# Altium footprint library Connector_Samtec_FSI.PcbLib: 90 footprints (part 3 of 6)
Each footprint in its own frame and in the unit in brackets; x right, y up, seen from the top. Pads: shape width x height; smd on the part's side, far side on the other; paste and mask are expansions set on the pad; w line width, h text height; cw(c..) or ccw(c..) is an arc to the next point about the centre after c.
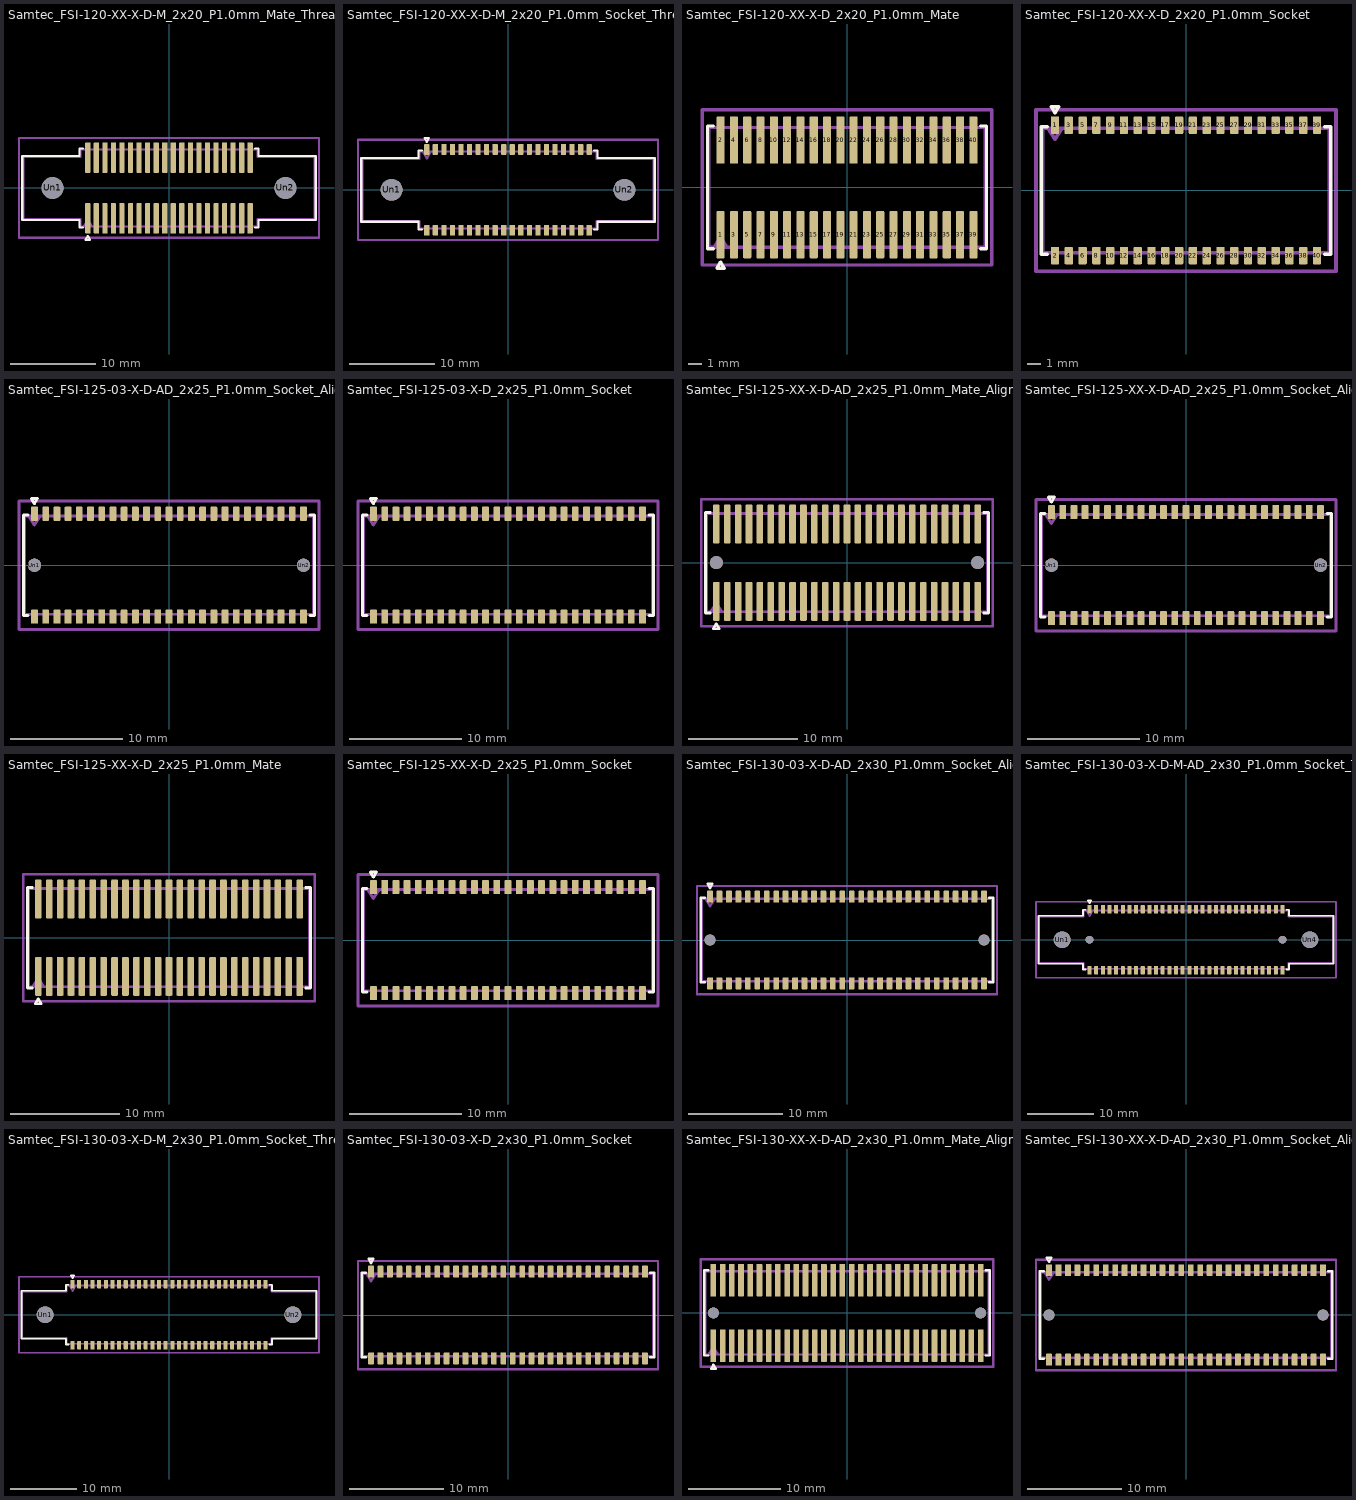
[diagram p2: the footprints below, top view; thin cyan lines are the x and y axes]

## Samtec_FSI-120-XX-X-D-M_2x20_P1.0mm_Mate_Threaded [mm]
pads (42):
  rrect25% 0.61x3.55 smd: 1(-9.5,-3.555) 2(-9.5,3.555) 3(-8.5,-3.555) 4(-8.5,3.555) 5(-7.5,-3.555) 6(-7.5,3.555) 7(-6.5,-3.555) 8(-6.5,3.555) 9(-5.5,-3.555) 10(-5.5,3.555) 11(-4.5,-3.555) 12(-4.5,3.555) 13(-3.5,-3.555) 14(-3.5,3.555) 15(-2.5,-3.555) 16(-2.5,3.555) 17(-1.5,-3.555) 18(-1.5,3.555) 19(-0.5,-3.555) 20(-0.5,3.555) 21(0.5,-3.555) 22(0.5,3.555) 23(1.5,-3.555) 24(1.5,3.555) 25(2.5,-3.555) 26(2.5,3.555) 27(3.5,-3.555) 28(3.5,3.555) 29(4.5,-3.555) 30(4.5,3.555) 31(5.5,-3.555) 32(5.5,3.555) 33(6.5,-3.555) 34(6.5,3.555) 35(7.5,-3.555) 36(7.5,3.555) 37(8.5,-3.555) 38(8.5,3.555) 39(9.5,-3.555) 40(9.5,3.555)
  round 2.54 hole 2.54: Un1(-13.62,0) Un2(13.62,0)
F.SilkS:
  lines w0.254: -10.065,-4.618 -10.49,-4.618 -10.49,-3.734 -17.16,-3.734 -17.16,3.734 -10.49,3.734 -10.49,4.618 -10.065,4.618 ; 10.065,-4.618 10.49,-4.618 10.49,-3.734 17.16,-3.734 17.16,3.734 10.49,3.734 10.49,4.618 10.065,4.618 ; -9.764,-6.066 -9.236,-6.066 -9.5,-5.609 -9.764,-6.066
Top Assembly:
  lines w0.254: -10,-4.508 -9.5,-3.708 -9,-4.508 ; -17.05,-3.624 -10.38,-3.624 -10.38,-4.508 10.38,-4.508 10.38,-3.624 17.05,-3.624 17.05,3.624 10.38,3.624 10.38,4.508 -10.38,4.508 -10.38,3.624 -17.05,3.624 -17.05,-3.624
  text "'.Designator'" at -4.047,-0.84 h1
Top Courtyard:
  lines w0.254: -17.55,-5.83 17.55,-5.83 17.55,5.83 -17.55,5.83 -17.55,-5.83
Top Designator:
  text ".Designator" at -7.618,-0.626 h1.52

## Samtec_FSI-120-XX-X-D-M_2x20_P1.0mm_Socket_Threaded [mm]
pads (42):
  rrect25% 0.61x1.26 smd: 1(-9.5,4.73) 2(-9.5,-4.73) 3(-8.5,4.73) 4(-8.5,-4.73) 5(-7.5,4.73) 6(-7.5,-4.73) 7(-6.5,4.73) 8(-6.5,-4.73) 9(-5.5,4.73) 10(-5.5,-4.73) 11(-4.5,4.73) 12(-4.5,-4.73) 13(-3.5,4.73) 14(-3.5,-4.73) 15(-2.5,4.73) 16(-2.5,-4.73) 17(-1.5,4.73) 18(-1.5,-4.73) 19(-0.5,4.73) 20(-0.5,-4.73) 21(0.5,4.73) 22(0.5,-4.73) 23(1.5,4.73) 24(1.5,-4.73) 25(2.5,4.73) 26(2.5,-4.73) 27(3.5,4.73) 28(3.5,-4.73) 29(4.5,4.73) 30(4.5,-4.73) 31(5.5,4.73) 32(5.5,-4.73) 33(6.5,4.73) 34(6.5,-4.73) 35(7.5,4.73) 36(7.5,-4.73) 37(8.5,4.73) 38(8.5,-4.73) 39(9.5,4.73) 40(9.5,-4.73)
  round 2.54 hole 2.54: Un1(-13.62,0) Un2(13.62,0)
F.SilkS:
  lines w0.254: -10.065,-4.618 -10.49,-4.618 -10.49,-3.734 -17.16,-3.734 -17.16,3.734 -10.49,3.734 -10.49,4.618 -10.065,4.618 ; -9.507,5.62 -9.764,6.066 -9.236,6.066 -9.493,5.62 ; 10.065,-4.618 10.49,-4.618 10.49,-3.734 17.16,-3.734 17.16,3.734 10.49,3.734 10.49,4.618 10.065,4.618
Top Assembly:
  lines w0.254: -10,4.508 -9.5,3.708 -9,4.508 ; -17.05,-3.624 -10.38,-3.624 -10.38,-4.508 10.38,-4.508 10.38,-3.624 17.05,-3.624 17.05,3.624 10.38,3.624 10.38,4.508 -10.38,4.508 -10.38,3.624 -17.05,3.624 -17.05,-3.624
  text "'.Designator'" at -4.047,-0.84 h1
Top Courtyard:
  lines w0.254: -17.55,-5.86 17.55,-5.86 17.55,5.86 -17.55,5.86 -17.55,-5.86
Top Designator:
  text ".Designator" at -7.618,-0.405 h1.52

## Samtec_FSI-120-XX-X-D_2x20_P1.0mm_Mate [mm]
pads (40):
  rrect25% 0.61x3.55 smd: 1(-9.5,-3.555) 2(-9.5,3.555) 3(-8.5,-3.555) 4(-8.5,3.555) 5(-7.5,-3.555) 6(-7.5,3.555) 7(-6.5,-3.555) 8(-6.5,3.555) 9(-5.5,-3.555) 10(-5.5,3.555) 11(-4.5,-3.555) 12(-4.5,3.555) 13(-3.5,-3.555) 14(-3.5,3.555) 15(-2.5,-3.555) 16(-2.5,3.555) 17(-1.5,-3.555) 18(-1.5,3.555) 19(-0.5,-3.555) 20(-0.5,3.555) 21(0.5,-3.555) 22(0.5,3.555) 23(1.5,-3.555) 24(1.5,3.555) 25(2.5,-3.555) 26(2.5,3.555) 27(3.5,-3.555) 28(3.5,3.555) 29(4.5,-3.555) 30(4.5,3.555) 31(5.5,-3.555) 32(5.5,3.555) 33(6.5,-3.555) 34(6.5,3.555) 35(7.5,-3.555) 36(7.5,3.555) 37(8.5,-3.555) 38(8.5,3.555) 39(9.5,-3.555) 40(9.5,3.555)
F.SilkS:
  lines w0.254: -10.065,-4.618 -10.49,-4.618 -10.49,4.618 -10.065,4.618 ; 10.065,-4.618 10.49,-4.618 10.49,4.618 10.065,4.618 ; -9.764,-6.066 -9.236,-6.066 -9.5,-5.609 -9.764,-6.066
Top Assembly:
  lines w0.254: -10,-4.508 -9.5,-3.708 -9,-4.508 ; -10.38,-4.508 10.38,-4.508 10.38,4.508 -10.38,4.508 -10.38,-4.508
  text "'.Designator'" at -4.047,-0.84 h1
Top Courtyard:
  lines w0.254: -10.88,-5.83 10.88,-5.83 10.88,5.83 -10.88,5.83 -10.88,-5.83
Top Designator:
  text ".Designator" at -7.618,-0.626 h1.52

## Samtec_FSI-120-XX-X-D_2x20_P1.0mm_Socket [mm]
pads (40):
  rrect25% 0.61x1.26 smd: 1(-9.5,4.73) 2(-9.5,-4.73) 3(-8.5,4.73) 4(-8.5,-4.73) 5(-7.5,4.73) 6(-7.5,-4.73) 7(-6.5,4.73) 8(-6.5,-4.73) 9(-5.5,4.73) 10(-5.5,-4.73) 11(-4.5,4.73) 12(-4.5,-4.73) 13(-3.5,4.73) 14(-3.5,-4.73) 15(-2.5,4.73) 16(-2.5,-4.73) 17(-1.5,4.73) 18(-1.5,-4.73) 19(-0.5,4.73) 20(-0.5,-4.73) 21(0.5,4.73) 22(0.5,-4.73) 23(1.5,4.73) 24(1.5,-4.73) 25(2.5,4.73) 26(2.5,-4.73) 27(3.5,4.73) 28(3.5,-4.73) 29(4.5,4.73) 30(4.5,-4.73) 31(5.5,4.73) 32(5.5,-4.73) 33(6.5,4.73) 34(6.5,-4.73) 35(7.5,4.73) 36(7.5,-4.73) 37(8.5,4.73) 38(8.5,-4.73) 39(9.5,4.73) 40(9.5,-4.73)
F.SilkS:
  lines w0.254: -10.065,-4.618 -10.49,-4.618 -10.49,4.618 -10.065,4.618 ; -9.507,5.62 -9.764,6.066 -9.236,6.066 -9.493,5.62 ; 10.065,-4.618 10.49,-4.618 10.49,4.618 10.065,4.618
Top Assembly:
  lines w0.254: -10,4.508 -9.5,3.708 -9,4.508 ; -10.38,-4.508 10.38,-4.508 10.38,4.508 -10.38,4.508 -10.38,-4.508
  text "'.Designator'" at -4.047,-0.84 h1
Top Courtyard:
  lines w0.254: -10.88,-5.86 10.88,-5.86 10.88,5.86 -10.88,5.86 -10.88,-5.86
Top Designator:
  text ".Designator" at -7.618,-0.405 h1.52

## Samtec_FSI-125-03-X-D-AD_2x25_P1.0mm_Socket_AlignmentPin [mm]
pads (52):
  rrect25% 0.61x1.26 smd: 1(-12,4.59) 2(-12,-4.59) 3(-11,4.59) 4(-11,-4.59) 5(-10,4.59) 6(-10,-4.59) 7(-9,4.59) 8(-9,-4.59) 9(-8,4.59) 10(-8,-4.59) 11(-7,4.59) 12(-7,-4.59) 13(-6,4.59) 14(-6,-4.59) 15(-5,4.59) 16(-5,-4.59) 17(-4,4.59) 18(-4,-4.59) 19(-3,4.59) 20(-3,-4.59) 21(-2,4.59) 22(-2,-4.59) 23(-1,4.59) 24(-1,-4.59) 25(0,4.59) 26(0,-4.59) 27(1,4.59) 28(1,-4.59) 29(2,4.59) 30(2,-4.59) 31(3,4.59) 32(3,-4.59) 33(4,4.59) 34(4,-4.59) 35(5,4.59) 36(5,-4.59) 37(6,4.59) 38(6,-4.59) 39(7,4.59) 40(7,-4.59) 41(8,4.59) 42(8,-4.59) 43(9,4.59) 44(9,-4.59) 45(10,4.59) 46(10,-4.59) 47(11,4.59) 48(11,-4.59) 49(12,4.59) 50(12,-4.59)
  round 1.19 hole 1.19: Un1(-12,0) Un2(12,0)
F.SilkS:
  lines w0.254: -12.565,-4.49 -12.99,-4.49 -12.99,4.49 -12.565,4.49 ; 12.565,-4.49 12.99,-4.49 12.99,4.49 12.565,4.49 ; -12.264,5.937 -11.736,5.937 -12,5.48 -12.264,5.937
Top Assembly:
  lines w0.254: -12.5,4.38 -12,3.58 -11.5,4.38 ; -12.88,-4.38 12.88,-4.38 12.88,4.38 -12.88,4.38 -12.88,-4.38
  text "'.Designator'" at -4.047,-0.84 h1
Top Courtyard:
  lines w0.254: -13.38,-5.72 13.38,-5.72 13.38,5.72 -13.38,5.72 -13.38,-5.72
Top Designator:
  text ".Designator" at -7.618,-0.399 h1.52

## Samtec_FSI-125-03-X-D_2x25_P1.0mm_Socket [mm]
pads (50):
  rrect25% 0.61x1.26 smd: 1(-12,4.59) 2(-12,-4.59) 3(-11,4.59) 4(-11,-4.59) 5(-10,4.59) 6(-10,-4.59) 7(-9,4.59) 8(-9,-4.59) 9(-8,4.59) 10(-8,-4.59) 11(-7,4.59) 12(-7,-4.59) 13(-6,4.59) 14(-6,-4.59) 15(-5,4.59) 16(-5,-4.59) 17(-4,4.59) 18(-4,-4.59) 19(-3,4.59) 20(-3,-4.59) 21(-2,4.59) 22(-2,-4.59) 23(-1,4.59) 24(-1,-4.59) 25(0,4.59) 26(0,-4.59) 27(1,4.59) 28(1,-4.59) 29(2,4.59) 30(2,-4.59) 31(3,4.59) 32(3,-4.59) 33(4,4.59) 34(4,-4.59) 35(5,4.59) 36(5,-4.59) 37(6,4.59) 38(6,-4.59) 39(7,4.59) 40(7,-4.59) 41(8,4.59) 42(8,-4.59) 43(9,4.59) 44(9,-4.59) 45(10,4.59) 46(10,-4.59) 47(11,4.59) 48(11,-4.59) 49(12,4.59) 50(12,-4.59)
F.SilkS:
  lines w0.254: -12.565,-4.49 -12.99,-4.49 -12.99,4.49 -12.565,4.49 ; 12.565,-4.49 12.99,-4.49 12.99,4.49 12.565,4.49 ; -12.264,5.937 -11.736,5.937 -12,5.48 -12.264,5.937
Top Assembly:
  lines w0.254: -12.5,4.38 -12,3.58 -11.5,4.38 ; -12.88,-4.38 12.88,-4.38 12.88,4.38 -12.88,4.38 -12.88,-4.38
  text "'.Designator'" at -4.047,-0.84 h1
Top Courtyard:
  lines w0.254: -13.38,-5.72 13.38,-5.72 13.38,5.72 -13.38,5.72 -13.38,-5.72
Top Designator:
  text ".Designator" at -7.618,-0.399 h1.52

## Samtec_FSI-125-XX-X-D-AD_2x25_P1.0mm_Mate_AlignmentPin [mm]
pads (52):
  rrect25% 0.61x3.55 smd: 1(-12,-3.555) 2(-12,3.555) 3(-11,-3.555) 4(-11,3.555) 5(-10,-3.555) 6(-10,3.555) 7(-9,-3.555) 8(-9,3.555) 9(-8,-3.555) 10(-8,3.555) 11(-7,-3.555) 12(-7,3.555) 13(-6,-3.555) 14(-6,3.555) 15(-5,-3.555) 16(-5,3.555) 17(-4,-3.555) 18(-4,3.555) 19(-3,-3.555) 20(-3,3.555) 21(-2,-3.555) 22(-2,3.555) 23(-1,-3.555) 24(-1,3.555) 25(0,-3.555) 26(0,3.555) 27(1,-3.555) 28(1,3.555) 29(2,-3.555) 30(2,3.555) 31(3,-3.555) 32(3,3.555) 33(4,-3.555) 34(4,3.555) 35(5,-3.555) 36(5,3.555) 37(6,-3.555) 38(6,3.555) 39(7,-3.555) 40(7,3.555) 41(8,-3.555) 42(8,3.555) 43(9,-3.555) 44(9,3.555) 45(10,-3.555) 46(10,3.555) 47(11,-3.555) 48(11,3.555) 49(12,-3.555) 50(12,3.555)
  round 1.19 hole 1.19: Un1(-12,0) Un2(12,0)
F.SilkS:
  lines w0.254: -12.565,-4.618 -12.99,-4.618 -12.99,4.618 -12.565,4.618 ; 12.565,-4.618 12.99,-4.618 12.99,4.618 12.565,4.618 ; -12.264,-6.066 -11.736,-6.066 -12,-5.609 -12.264,-6.066
Top Assembly:
  lines w0.254: -12.5,-4.508 -12,-3.708 -11.5,-4.508 ; -12.88,-4.508 12.88,-4.508 12.88,4.508 -12.88,4.508 -12.88,-4.508
  text "'.Designator'" at -4.047,-0.84 h1
Top Courtyard:
  lines w0.254: -13.38,-5.83 13.38,-5.83 13.38,5.83 -13.38,5.83 -13.38,-5.83
Top Designator:
  text ".Designator" at -7.618,-0.626 h1.52

## Samtec_FSI-125-XX-X-D-AD_2x25_P1.0mm_Socket_AlignmentPin [mm]
pads (52):
  rrect25% 0.61x1.26 smd: 1(-12,4.73) 2(-12,-4.73) 3(-11,4.73) 4(-11,-4.73) 5(-10,4.73) 6(-10,-4.73) 7(-9,4.73) 8(-9,-4.73) 9(-8,4.73) 10(-8,-4.73) 11(-7,4.73) 12(-7,-4.73) 13(-6,4.73) 14(-6,-4.73) 15(-5,4.73) 16(-5,-4.73) 17(-4,4.73) 18(-4,-4.73) 19(-3,4.73) 20(-3,-4.73) 21(-2,4.73) 22(-2,-4.73) 23(-1,4.73) 24(-1,-4.73) 25(0,4.73) 26(0,-4.73) 27(1,4.73) 28(1,-4.73) 29(2,4.73) 30(2,-4.73) 31(3,4.73) 32(3,-4.73) 33(4,4.73) 34(4,-4.73) 35(5,4.73) 36(5,-4.73) 37(6,4.73) 38(6,-4.73) 39(7,4.73) 40(7,-4.73) 41(8,4.73) 42(8,-4.73) 43(9,4.73) 44(9,-4.73) 45(10,4.73) 46(10,-4.73) 47(11,4.73) 48(11,-4.73) 49(12,4.73) 50(12,-4.73)
  round 1.19 hole 1.19: Un1(-12,0) Un2(12,0)
F.SilkS:
  lines w0.254: -12.565,-4.618 -12.99,-4.618 -12.99,4.618 -12.565,4.618 ; -12.007,5.62 -12.264,6.066 -11.736,6.066 -11.993,5.62 ; 12.565,-4.618 12.99,-4.618 12.99,4.618 12.565,4.618
Top Assembly:
  lines w0.254: -12.5,4.508 -12,3.708 -11.5,4.508 ; -12.88,-4.508 12.88,-4.508 12.88,4.508 -12.88,4.508 -12.88,-4.508
  text "'.Designator'" at -4.047,-0.84 h1
Top Courtyard:
  lines w0.254: -13.38,-5.86 13.38,-5.86 13.38,5.86 -13.38,5.86 -13.38,-5.86
Top Designator:
  text ".Designator" at -7.618,-0.405 h1.52

## Samtec_FSI-125-XX-X-D_2x25_P1.0mm_Mate [mm]
pads (50):
  rrect25% 0.61x3.55 smd: 1(-12,-3.555) 2(-12,3.555) 3(-11,-3.555) 4(-11,3.555) 5(-10,-3.555) 6(-10,3.555) 7(-9,-3.555) 8(-9,3.555) 9(-8,-3.555) 10(-8,3.555) 11(-7,-3.555) 12(-7,3.555) 13(-6,-3.555) 14(-6,3.555) 15(-5,-3.555) 16(-5,3.555) 17(-4,-3.555) 18(-4,3.555) 19(-3,-3.555) 20(-3,3.555) 21(-2,-3.555) 22(-2,3.555) 23(-1,-3.555) 24(-1,3.555) 25(0,-3.555) 26(0,3.555) 27(1,-3.555) 28(1,3.555) 29(2,-3.555) 30(2,3.555) 31(3,-3.555) 32(3,3.555) 33(4,-3.555) 34(4,3.555) 35(5,-3.555) 36(5,3.555) 37(6,-3.555) 38(6,3.555) 39(7,-3.555) 40(7,3.555) 41(8,-3.555) 42(8,3.555) 43(9,-3.555) 44(9,3.555) 45(10,-3.555) 46(10,3.555) 47(11,-3.555) 48(11,3.555) 49(12,-3.555) 50(12,3.555)
F.SilkS:
  lines w0.254: -12.565,-4.618 -12.99,-4.618 -12.99,4.618 -12.565,4.618 ; 12.565,-4.618 12.99,-4.618 12.99,4.618 12.565,4.618 ; -12.264,-6.066 -11.736,-6.066 -12,-5.609 -12.264,-6.066
Top Assembly:
  lines w0.254: -12.5,-4.508 -12,-3.708 -11.5,-4.508 ; -12.88,-4.508 12.88,-4.508 12.88,4.508 -12.88,4.508 -12.88,-4.508
  text "'.Designator'" at -4.047,-0.84 h1
Top Courtyard:
  lines w0.254: -13.38,-5.83 13.38,-5.83 13.38,5.83 -13.38,5.83 -13.38,-5.83
Top Designator:
  text ".Designator" at -7.618,-0.626 h1.52

## Samtec_FSI-125-XX-X-D_2x25_P1.0mm_Socket [mm]
pads (50):
  rrect25% 0.61x1.26 smd: 1(-12,4.73) 2(-12,-4.73) 3(-11,4.73) 4(-11,-4.73) 5(-10,4.73) 6(-10,-4.73) 7(-9,4.73) 8(-9,-4.73) 9(-8,4.73) 10(-8,-4.73) 11(-7,4.73) 12(-7,-4.73) 13(-6,4.73) 14(-6,-4.73) 15(-5,4.73) 16(-5,-4.73) 17(-4,4.73) 18(-4,-4.73) 19(-3,4.73) 20(-3,-4.73) 21(-2,4.73) 22(-2,-4.73) 23(-1,4.73) 24(-1,-4.73) 25(0,4.73) 26(0,-4.73) 27(1,4.73) 28(1,-4.73) 29(2,4.73) 30(2,-4.73) 31(3,4.73) 32(3,-4.73) 33(4,4.73) 34(4,-4.73) 35(5,4.73) 36(5,-4.73) 37(6,4.73) 38(6,-4.73) 39(7,4.73) 40(7,-4.73) 41(8,4.73) 42(8,-4.73) 43(9,4.73) 44(9,-4.73) 45(10,4.73) 46(10,-4.73) 47(11,4.73) 48(11,-4.73) 49(12,4.73) 50(12,-4.73)
F.SilkS:
  lines w0.254: -12.565,-4.618 -12.99,-4.618 -12.99,4.618 -12.565,4.618 ; -12.007,5.62 -12.264,6.066 -11.736,6.066 -11.993,5.62 ; 12.565,-4.618 12.99,-4.618 12.99,4.618 12.565,4.618
Top Assembly:
  lines w0.254: -12.5,4.508 -12,3.708 -11.5,4.508 ; -12.88,-4.508 12.88,-4.508 12.88,4.508 -12.88,4.508 -12.88,-4.508
  text "'.Designator'" at -4.047,-0.84 h1
Top Courtyard:
  lines w0.254: -13.38,-5.86 13.38,-5.86 13.38,5.86 -13.38,5.86 -13.38,-5.86
Top Designator:
  text ".Designator" at -7.618,-0.405 h1.52

## Samtec_FSI-130-03-X-D-AD_2x30_P1.0mm_Socket_AlignmentPin [mm]
pads (62):
  rrect25% 0.61x1.26 smd: 1(-14.5,4.59) 2(-14.5,-4.59) 3(-13.5,4.59) 4(-13.5,-4.59) 5(-12.5,4.59) 6(-12.5,-4.59) 7(-11.5,4.59) 8(-11.5,-4.59) 9(-10.5,4.59) 10(-10.5,-4.59) 11(-9.5,4.59) 12(-9.5,-4.59) 13(-8.5,4.59) 14(-8.5,-4.59) 15(-7.5,4.59) 16(-7.5,-4.59) 17(-6.5,4.59) 18(-6.5,-4.59) 19(-5.5,4.59) 20(-5.5,-4.59) 21(-4.5,4.59) 22(-4.5,-4.59) 23(-3.5,4.59) 24(-3.5,-4.59) 25(-2.5,4.59) 26(-2.5,-4.59) 27(-1.5,4.59) 28(-1.5,-4.59) 29(-0.5,4.59) 30(-0.5,-4.59) 31(0.5,4.59) 32(0.5,-4.59) 33(1.5,4.59) 34(1.5,-4.59) 35(2.5,4.59) 36(2.5,-4.59) 37(3.5,4.59) 38(3.5,-4.59) 39(4.5,4.59) 40(4.5,-4.59) 41(5.5,4.59) 42(5.5,-4.59) 43(6.5,4.59) 44(6.5,-4.59) 45(7.5,4.59) 46(7.5,-4.59) 47(8.5,4.59) 48(8.5,-4.59) 49(9.5,4.59) 50(9.5,-4.59) 51(10.5,4.59) 52(10.5,-4.59) 53(11.5,4.59) 54(11.5,-4.59) 55(12.5,4.59) 56(12.5,-4.59) 57(13.5,4.59) 58(13.5,-4.59) 59(14.5,4.59) 60(14.5,-4.59)
  round 1.19 hole 1.19: Un1(-14.5,0) Un2(14.5,0)
F.SilkS:
  lines w0.254: -15.065,-4.49 -15.49,-4.49 -15.49,4.49 -15.065,4.49 ; 15.065,-4.49 15.49,-4.49 15.49,4.49 15.065,4.49 ; -14.764,5.937 -14.236,5.937 -14.5,5.48 -14.764,5.937
Top Assembly:
  lines w0.254: -15,4.38 -14.5,3.58 -14,4.38 ; -15.38,-4.38 15.38,-4.38 15.38,4.38 -15.38,4.38 -15.38,-4.38
  text "'.Designator'" at -4.047,-0.84 h1
Top Courtyard:
  lines w0.254: -15.88,-5.72 15.88,-5.72 15.88,5.72 -15.88,5.72 -15.88,-5.72
Top Designator:
  text ".Designator" at -7.618,-0.399 h1.52

## Samtec_FSI-130-03-X-D-M-AD_2x30_P1.0mm_Socket_Threaded_AlignmentPin [mm]
pads (64):
  rrect25% 0.61x1.26 smd: 1(-14.5,4.59) 2(-14.5,-4.59) 3(-13.5,4.59) 4(-13.5,-4.59) 5(-12.5,4.59) 6(-12.5,-4.59) 7(-11.5,4.59) 8(-11.5,-4.59) 9(-10.5,4.59) 10(-10.5,-4.59) 11(-9.5,4.59) 12(-9.5,-4.59) 13(-8.5,4.59) 14(-8.5,-4.59) 15(-7.5,4.59) 16(-7.5,-4.59) 17(-6.5,4.59) 18(-6.5,-4.59) 19(-5.5,4.59) 20(-5.5,-4.59) 21(-4.5,4.59) 22(-4.5,-4.59) 23(-3.5,4.59) 24(-3.5,-4.59) 25(-2.5,4.59) 26(-2.5,-4.59) 27(-1.5,4.59) 28(-1.5,-4.59) 29(-0.5,4.59) 30(-0.5,-4.59) 31(0.5,4.59) 32(0.5,-4.59) 33(1.5,4.59) 34(1.5,-4.59) 35(2.5,4.59) 36(2.5,-4.59) 37(3.5,4.59) 38(3.5,-4.59) 39(4.5,4.59) 40(4.5,-4.59) 41(5.5,4.59) 42(5.5,-4.59) 43(6.5,4.59) 44(6.5,-4.59) 45(7.5,4.59) 46(7.5,-4.59) 47(8.5,4.59) 48(8.5,-4.59) 49(9.5,4.59) 50(9.5,-4.59) 51(10.5,4.59) 52(10.5,-4.59) 53(11.5,4.59) 54(11.5,-4.59) 55(12.5,4.59) 56(12.5,-4.59) 57(13.5,4.59) 58(13.5,-4.59) 59(14.5,4.59) 60(14.5,-4.59)
  round 2.54 hole 2.54: Un1(-18.62,0) Un4(18.62,0)
  round 1.19 hole 1.19: Un2(-14.5,0) Un3(14.5,0)
F.SilkS:
  lines w0.254: -15.065,-4.49 -15.49,-4.49 -15.49,-3.605 -22.16,-3.605 -22.16,3.605 -15.49,3.605 -15.49,4.49 -15.065,4.49 ; 15.065,-4.49 15.49,-4.49 15.49,-3.605 22.16,-3.605 22.16,3.605 15.49,3.605 15.49,4.49 15.065,4.49 ; -14.764,5.937 -14.236,5.937 -14.5,5.48 -14.764,5.937
Top Assembly:
  lines w0.254: -15,4.38 -14.5,3.58 -14,4.38 ; -22.05,-3.495 -15.38,-3.495 -15.38,-4.38 15.38,-4.38 15.38,-3.495 22.05,-3.495 22.05,3.495 15.38,3.495 15.38,4.38 -15.38,4.38 -15.38,3.495 -22.05,3.495 -22.05,-3.495
  text "'.Designator'" at -4.047,-0.84 h1
Top Courtyard:
  lines w0.254: -22.55,-5.72 22.55,-5.72 22.55,5.72 -22.55,5.72 -22.55,-5.72
Top Designator:
  text ".Designator" at -7.618,-0.399 h1.52

## Samtec_FSI-130-03-X-D-M_2x30_P1.0mm_Socket_Threaded [mm]
pads (62):
  rrect25% 0.61x1.26 smd: 1(-14.5,4.59) 2(-14.5,-4.59) 3(-13.5,4.59) 4(-13.5,-4.59) 5(-12.5,4.59) 6(-12.5,-4.59) 7(-11.5,4.59) 8(-11.5,-4.59) 9(-10.5,4.59) 10(-10.5,-4.59) 11(-9.5,4.59) 12(-9.5,-4.59) 13(-8.5,4.59) 14(-8.5,-4.59) 15(-7.5,4.59) 16(-7.5,-4.59) 17(-6.5,4.59) 18(-6.5,-4.59) 19(-5.5,4.59) 20(-5.5,-4.59) 21(-4.5,4.59) 22(-4.5,-4.59) 23(-3.5,4.59) 24(-3.5,-4.59) 25(-2.5,4.59) 26(-2.5,-4.59) 27(-1.5,4.59) 28(-1.5,-4.59) 29(-0.5,4.59) 30(-0.5,-4.59) 31(0.5,4.59) 32(0.5,-4.59) 33(1.5,4.59) 34(1.5,-4.59) 35(2.5,4.59) 36(2.5,-4.59) 37(3.5,4.59) 38(3.5,-4.59) 39(4.5,4.59) 40(4.5,-4.59) 41(5.5,4.59) 42(5.5,-4.59) 43(6.5,4.59) 44(6.5,-4.59) 45(7.5,4.59) 46(7.5,-4.59) 47(8.5,4.59) 48(8.5,-4.59) 49(9.5,4.59) 50(9.5,-4.59) 51(10.5,4.59) 52(10.5,-4.59) 53(11.5,4.59) 54(11.5,-4.59) 55(12.5,4.59) 56(12.5,-4.59) 57(13.5,4.59) 58(13.5,-4.59) 59(14.5,4.59) 60(14.5,-4.59)
  round 2.54 hole 2.54: Un1(-18.62,0) Un2(18.62,0)
F.SilkS:
  lines w0.254: -15.065,-4.49 -15.49,-4.49 -15.49,-3.605 -22.16,-3.605 -22.16,3.605 -15.49,3.605 -15.49,4.49 -15.065,4.49 ; 15.065,-4.49 15.49,-4.49 15.49,-3.605 22.16,-3.605 22.16,3.605 15.49,3.605 15.49,4.49 15.065,4.49 ; -14.764,5.937 -14.236,5.937 -14.5,5.48 -14.764,5.937
Top Assembly:
  lines w0.254: -15,4.38 -14.5,3.58 -14,4.38 ; -22.05,-3.495 -15.38,-3.495 -15.38,-4.38 15.38,-4.38 15.38,-3.495 22.05,-3.495 22.05,3.495 15.38,3.495 15.38,4.38 -15.38,4.38 -15.38,3.495 -22.05,3.495 -22.05,-3.495
  text "'.Designator'" at -4.047,-0.84 h1
Top Courtyard:
  lines w0.254: -22.55,-5.72 22.55,-5.72 22.55,5.72 -22.55,5.72 -22.55,-5.72
Top Designator:
  text ".Designator" at -7.618,-0.399 h1.52

## Samtec_FSI-130-03-X-D_2x30_P1.0mm_Socket [mm]
pads (60):
  rrect25% 0.61x1.26 smd: 1(-14.5,4.59) 2(-14.5,-4.59) 3(-13.5,4.59) 4(-13.5,-4.59) 5(-12.5,4.59) 6(-12.5,-4.59) 7(-11.5,4.59) 8(-11.5,-4.59) 9(-10.5,4.59) 10(-10.5,-4.59) 11(-9.5,4.59) 12(-9.5,-4.59) 13(-8.5,4.59) 14(-8.5,-4.59) 15(-7.5,4.59) 16(-7.5,-4.59) 17(-6.5,4.59) 18(-6.5,-4.59) 19(-5.5,4.59) 20(-5.5,-4.59) 21(-4.5,4.59) 22(-4.5,-4.59) 23(-3.5,4.59) 24(-3.5,-4.59) 25(-2.5,4.59) 26(-2.5,-4.59) 27(-1.5,4.59) 28(-1.5,-4.59) 29(-0.5,4.59) 30(-0.5,-4.59) 31(0.5,4.59) 32(0.5,-4.59) 33(1.5,4.59) 34(1.5,-4.59) 35(2.5,4.59) 36(2.5,-4.59) 37(3.5,4.59) 38(3.5,-4.59) 39(4.5,4.59) 40(4.5,-4.59) 41(5.5,4.59) 42(5.5,-4.59) 43(6.5,4.59) 44(6.5,-4.59) 45(7.5,4.59) 46(7.5,-4.59) 47(8.5,4.59) 48(8.5,-4.59) 49(9.5,4.59) 50(9.5,-4.59) 51(10.5,4.59) 52(10.5,-4.59) 53(11.5,4.59) 54(11.5,-4.59) 55(12.5,4.59) 56(12.5,-4.59) 57(13.5,4.59) 58(13.5,-4.59) 59(14.5,4.59) 60(14.5,-4.59)
F.SilkS:
  lines w0.254: -15.065,-4.49 -15.49,-4.49 -15.49,4.49 -15.065,4.49 ; 15.065,-4.49 15.49,-4.49 15.49,4.49 15.065,4.49 ; -14.764,5.937 -14.236,5.937 -14.5,5.48 -14.764,5.937
Top Assembly:
  lines w0.254: -15,4.38 -14.5,3.58 -14,4.38 ; -15.38,-4.38 15.38,-4.38 15.38,4.38 -15.38,4.38 -15.38,-4.38
  text "'.Designator'" at -4.047,-0.84 h1
Top Courtyard:
  lines w0.254: -15.88,-5.72 15.88,-5.72 15.88,5.72 -15.88,5.72 -15.88,-5.72
Top Designator:
  text ".Designator" at -7.618,-0.399 h1.52

## Samtec_FSI-130-XX-X-D-AD_2x30_P1.0mm_Mate_AlignmentPin [mm]
pads (62):
  rrect25% 0.61x3.55 smd: 1(-14.5,-3.555) 2(-14.5,3.555) 3(-13.5,-3.555) 4(-13.5,3.555) 5(-12.5,-3.555) 6(-12.5,3.555) 7(-11.5,-3.555) 8(-11.5,3.555) 9(-10.5,-3.555) 10(-10.5,3.555) 11(-9.5,-3.555) 12(-9.5,3.555) 13(-8.5,-3.555) 14(-8.5,3.555) 15(-7.5,-3.555) 16(-7.5,3.555) 17(-6.5,-3.555) 18(-6.5,3.555) 19(-5.5,-3.555) 20(-5.5,3.555) 21(-4.5,-3.555) 22(-4.5,3.555) 23(-3.5,-3.555) 24(-3.5,3.555) 25(-2.5,-3.555) 26(-2.5,3.555) 27(-1.5,-3.555) 28(-1.5,3.555) 29(-0.5,-3.555) 30(-0.5,3.555) 31(0.5,-3.555) 32(0.5,3.555) 33(1.5,-3.555) 34(1.5,3.555) 35(2.5,-3.555) 36(2.5,3.555) 37(3.5,-3.555) 38(3.5,3.555) 39(4.5,-3.555) 40(4.5,3.555) 41(5.5,-3.555) 42(5.5,3.555) 43(6.5,-3.555) 44(6.5,3.555) 45(7.5,-3.555) 46(7.5,3.555) 47(8.5,-3.555) 48(8.5,3.555) 49(9.5,-3.555) 50(9.5,3.555) 51(10.5,-3.555) 52(10.5,3.555) 53(11.5,-3.555) 54(11.5,3.555) 55(12.5,-3.555) 56(12.5,3.555) 57(13.5,-3.555) 58(13.5,3.555) 59(14.5,-3.555) 60(14.5,3.555)
  round 1.19 hole 1.19: Un1(-14.5,0) Un2(14.5,0)
F.SilkS:
  lines w0.254: -15.065,-4.618 -15.49,-4.618 -15.49,4.618 -15.065,4.618 ; 15.065,-4.618 15.49,-4.618 15.49,4.618 15.065,4.618 ; -14.764,-6.066 -14.236,-6.066 -14.5,-5.609 -14.764,-6.066
Top Assembly:
  lines w0.254: -15,-4.508 -14.5,-3.708 -14,-4.508 ; -15.38,-4.508 15.38,-4.508 15.38,4.508 -15.38,4.508 -15.38,-4.508
  text "'.Designator'" at -4.047,-0.84 h1
Top Courtyard:
  lines w0.254: -15.88,-5.83 15.88,-5.83 15.88,5.83 -15.88,5.83 -15.88,-5.83
Top Designator:
  text ".Designator" at -7.618,-0.626 h1.52

## Samtec_FSI-130-XX-X-D-AD_2x30_P1.0mm_Socket_AlignmentPin [mm]
pads (62):
  rrect25% 0.61x1.26 smd: 1(-14.5,4.73) 2(-14.5,-4.73) 3(-13.5,4.73) 4(-13.5,-4.73) 5(-12.5,4.73) 6(-12.5,-4.73) 7(-11.5,4.73) 8(-11.5,-4.73) 9(-10.5,4.73) 10(-10.5,-4.73) 11(-9.5,4.73) 12(-9.5,-4.73) 13(-8.5,4.73) 14(-8.5,-4.73) 15(-7.5,4.73) 16(-7.5,-4.73) 17(-6.5,4.73) 18(-6.5,-4.73) 19(-5.5,4.73) 20(-5.5,-4.73) 21(-4.5,4.73) 22(-4.5,-4.73) 23(-3.5,4.73) 24(-3.5,-4.73) 25(-2.5,4.73) 26(-2.5,-4.73) 27(-1.5,4.73) 28(-1.5,-4.73) 29(-0.5,4.73) 30(-0.5,-4.73) 31(0.5,4.73) 32(0.5,-4.73) 33(1.5,4.73) 34(1.5,-4.73) 35(2.5,4.73) 36(2.5,-4.73) 37(3.5,4.73) 38(3.5,-4.73) 39(4.5,4.73) 40(4.5,-4.73) 41(5.5,4.73) 42(5.5,-4.73) 43(6.5,4.73) 44(6.5,-4.73) 45(7.5,4.73) 46(7.5,-4.73) 47(8.5,4.73) 48(8.5,-4.73) 49(9.5,4.73) 50(9.5,-4.73) 51(10.5,4.73) 52(10.5,-4.73) 53(11.5,4.73) 54(11.5,-4.73) 55(12.5,4.73) 56(12.5,-4.73) 57(13.5,4.73) 58(13.5,-4.73) 59(14.5,4.73) 60(14.5,-4.73)
  round 1.19 hole 1.19: Un1(-14.5,0) Un2(14.5,0)
F.SilkS:
  lines w0.254: -15.065,-4.618 -15.49,-4.618 -15.49,4.618 -15.065,4.618 ; -14.507,5.62 -14.764,6.066 -14.236,6.066 -14.493,5.62 ; 15.065,-4.618 15.49,-4.618 15.49,4.618 15.065,4.618
Top Assembly:
  lines w0.254: -15,4.508 -14.5,3.708 -14,4.508 ; -15.38,-4.508 15.38,-4.508 15.38,4.508 -15.38,4.508 -15.38,-4.508
  text "'.Designator'" at -4.047,-0.84 h1
Top Courtyard:
  lines w0.254: -15.88,-5.86 15.88,-5.86 15.88,5.86 -15.88,5.86 -15.88,-5.86
Top Designator:
  text ".Designator" at -7.618,-0.405 h1.52